# Altium schematic symbol library floppy.SchLib: 1 symbol
Pins are listed as number, name and electrical type; pins without a type are passive.

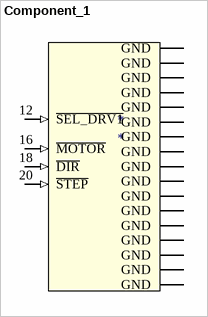
[diagram p0: symbol Component_1]

## Component_1
designator *
footprint Header34
pins: 1 GND (power), 3 GND (power), 5 GND (power), 7 GND (power), 9 GND (power), 11 GND (power), 12 ~{SEL_DRV1} (in), 13 GND (power), 15 GND (power), 16 ~{MOTOR} (in), 17 GND (power), 18 ~{DIR} (in), 19 GND (power), 20 ~{STEP} (in), 21 GND (power), 23 GND (power), 25 GND (power), 27 GND (power), 29 GND (power), 31 GND (power), 33 GND (power)